# EAGLE library part STM32F722R*T (library HarpyFC_Library)
ARM 32-bit Cortex™-M7 CPU 216 MHz maximum frequency 512 Kbytes of Flash memory 256 kbytes of SRAM 50 GPIOs 1.8 to 3.6 V application supply
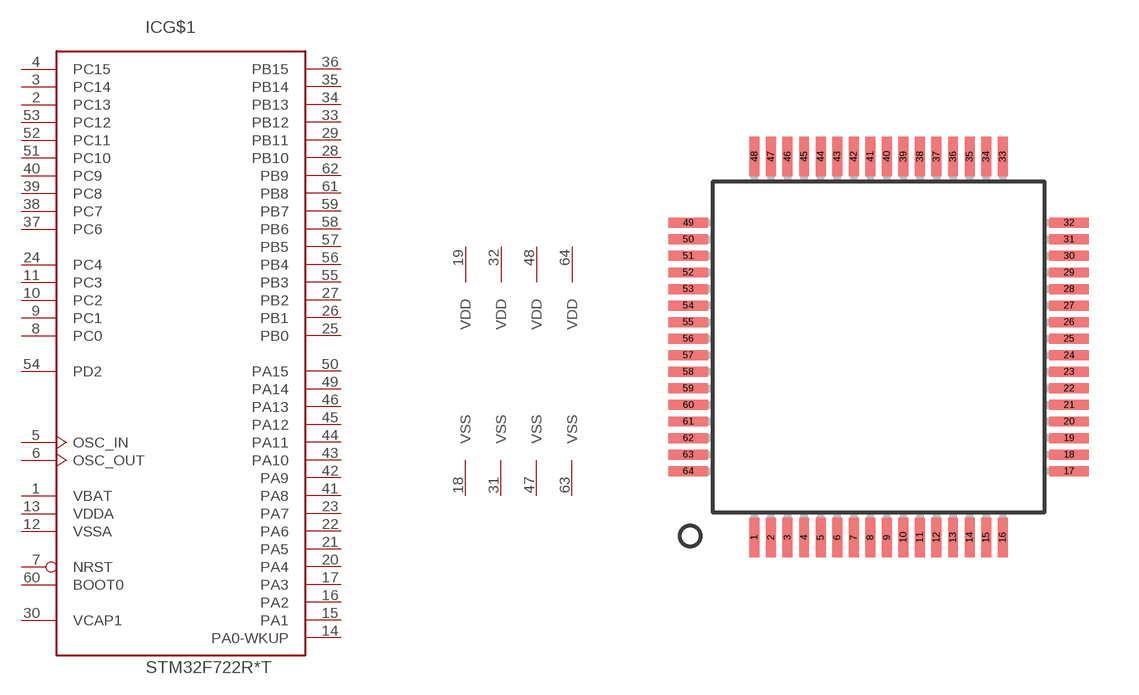
[diagram p5: symbol with the pads of LQFP64; footprint LQFP64]

Designator prefix IC; gates G$1=STM32_64PIN_TYP5F7 G$2=PWR_VDD4_VSS4

## STM32F722RGT  [LQFP64]
1  G$1:VBAT  pwr
2  G$1:PC13
3  G$1:PC14
4  G$1:PC15
5  G$1:OSC_IN
6  G$1:OSC_OUT
7  G$1:NRST
8  G$1:PC0
9  G$1:PC1
10  G$1:PC2
11  G$1:PC3
12  G$1:VSSA  pwr
13  G$1:VDDA  pwr
14  G$1:PA0-WKUP
15  G$1:PA1
16  G$1:PA2
17  G$1:PA3
18  G$2:VSS  pwr
19  G$2:VDD  pwr
20  G$1:PA4
21  G$1:PA5
22  G$1:PA6
23  G$1:PA7
24  G$1:PC4
25  G$1:PB0
26  G$1:PB1
27  G$1:PB2
28  G$1:PB10
29  G$1:PB11
30  G$1:VCAP1  pwr
31  G$2:VSS  pwr
32  G$2:VDD  pwr
33  G$1:PB12
34  G$1:PB13
35  G$1:PB14
36  G$1:PB15
37  G$1:PC6
38  G$1:PC7
39  G$1:PC8
40  G$1:PC9
41  G$1:PA8
42  G$1:PA9
43  G$1:PA10
44  G$1:PA11
45  G$1:PA12
46  G$1:PA13
47  G$2:VSS  pwr
48  G$2:VDD  pwr
49  G$1:PA14
50  G$1:PA15
51  G$1:PC10
52  G$1:PC11
53  G$1:PC12
54  G$1:PD2
55  G$1:PB3
56  G$1:PB4
57  G$1:PB5
58  G$1:PB6
59  G$1:PB7
60  G$1:BOOT0  in
61  G$1:PB8
62  G$1:PB9
63  G$2:VSS  pwr
64  G$2:VDD  pwr

## Footprint LQFP64 (pad centres in mm)
LQFP64 10 x 10 mm, 64-pin low-profile quad flat package
smd 0.3 x 1.2: 1 -3.75,-5.75; 2 -3.25,-5.75; 3 -2.75,-5.75; 4 -2.25,-5.75; 5 -1.75,-5.75; 6 -1.25,-5.75; 7 -0.75,-5.75; 8 -0.25,-5.75; 9 0.25,-5.75; 10 0.75,-5.75; 11 1.25,-5.75; 12 1.75,-5.75; 13 2.25,-5.75; 14 2.75,-5.75; 15 3.25,-5.75; 16 3.75,-5.75; 33 3.75,5.75; 34 3.25,5.75; 35 2.75,5.75; 36 2.25,5.75; 37 1.75,5.75; 38 1.25,5.75; 39 0.75,5.75; 40 0.25,5.75; 41 -0.25,5.75; 42 -0.75,5.75; 43 -1.25,5.75; 44 -1.75,5.75; 45 -2.25,5.75; 46 -2.75,5.75; 47 -3.25,5.75; 48 -3.75,5.75
smd 1.2 x 0.3: 17 5.75,-3.75; 18 5.75,-3.25; 19 5.75,-2.75; 20 5.75,-2.25; 21 5.75,-1.75; 22 5.75,-1.25; 23 5.75,-0.75; 24 5.75,-0.25; 25 5.75,0.25; 26 5.75,0.75; 27 5.75,1.25; 28 5.75,1.75; 29 5.75,2.25; 30 5.75,2.75; 31 5.75,3.25; 32 5.75,3.75; 49 -5.75,3.75; 50 -5.75,3.25; 51 -5.75,2.75; 52 -5.75,2.25; 53 -5.75,1.75; 54 -5.75,1.25; 55 -5.75,0.75; 56 -5.75,0.25; 57 -5.75,-0.25; 58 -5.75,-0.75; 59 -5.75,-1.25; 60 -5.75,-1.75; 61 -5.75,-2.25; 62 -5.75,-2.75; 63 -5.75,-3.25; 64 -5.75,-3.75